# Altium schematic symbol library PIN.SchLib: 1 symbol
Pins are listed as number, name and electrical type; pins without a type are passive.

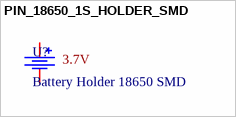
[diagram p0: symbol PIN_18650_1S_HOLDER_SMD]

## PIN_18650_1S_HOLDER_SMD
designator U?, comment Battery Holder 18650 SMD
Battery Holder -10℃~+100℃ Gold Phosphor Bronze Button And Strip Battery Connector ROHS; Manufacturer: MYOUNG; Mfr. Part: BH-18650-B5BA008; Battery Type: 18650; LCSC Part: C5371777; Package: ---; Connector Type: Battery Holder; Link: https://www.lcsc.com/product-detail/C5371777.html?s_z=h_BATTERRY%252018650%2520HOLER
footprint PIN_18650_1S_HOLDER_SMD
pins: 1, 2
text: 3.7V